# Altium footprint library DXPpcb.PCBLIB: 575 footprints (part 27 of 36)
Each footprint in its own frame and in the unit in brackets; x right, y up, seen from the top. Pads: shape width x height; smd on the part's side, far side on the other; paste and mask are expansions set on the pad; w line width, h text height; cw(c..) or ccw(c..) is an arc to the next point about the centre after c.
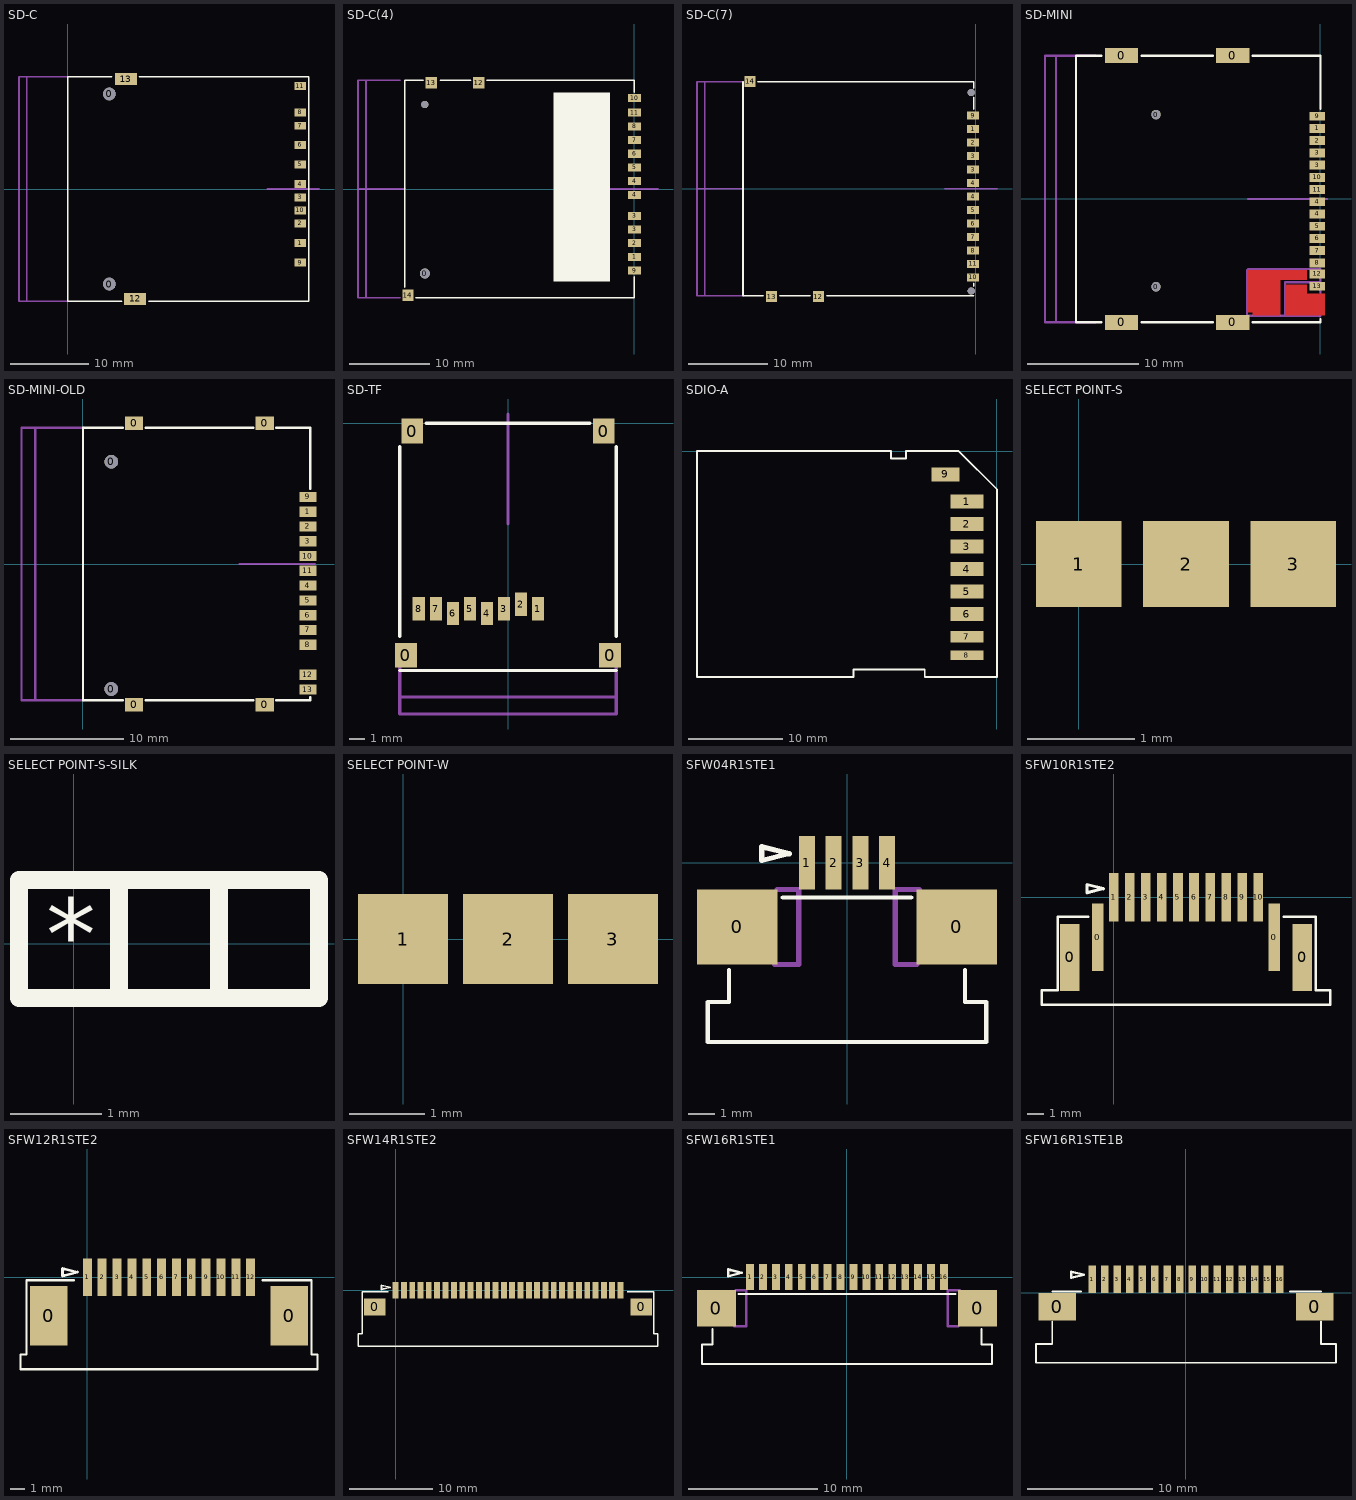
[diagram p26: the footprints below, top view; thin cyan lines are the x and y axes]

## SD-C [mm]
pads (15):
  round 1.6 hole 1.6 unplated: 0(5.3,-12.1) 0(5.3,12.1)
  rect 1.5x1 smd: 1(29.6,-6.88) 2(29.6,-4.38) 3(29.6,-1.08) 4(29.6,0.62) 5(29.6,3.12) 6(29.6,5.62) 7(29.6,8.05) 8(29.6,9.75) 9(29.6,-9.38) 10(29.6,-2.73) 11(29.6,13.1)
  rect 2.8x1.5 smd: 12(8.6,-14) 13(7.4,14)
TopOverlay:
  lines w0.2: 5.6,14.3 0,14.3 0,-14.3 6.9,-14.3 ; 9.1,14.3 30.7,14.3 30.7,-14.3 10.3,-14.3
Mechanical3:
  lines w0.2: 0,-14.3 -5.2,-14.3 ; 0,14.3 -5.2,14.3 ; 25.4,0 32,0 ; -5.2,-14.3 -5.2,14.3 ; -5.2,-14.3 -6.2,-14.3 -6.2,14.3 -5.2,14.3

## SD-C(4) [mm]
pads (18):
  round 1.25 hole 1.25 unplated: 0(-26,-10.5)
  round 0.9 hole 0.9 unplated: 0(-26,10.5)
  rect 1.6x1 smd: 1(0.05,-8.425) 2(0.05,-6.725) 3(0.05,-5.025) 3(0.05,-3.325) 4(0.05,-0.725) 4(0.05,0.975) 5(0.05,2.675) 6(0.05,4.375) 7(0.05,6.075) 8(0.05,7.775) 9(0.05,-10.125) 10(0.05,11.275) 11(0.05,9.475)
  rect 1.4x1.4 smd: 12(-19.3,13.2) 13(-25.2,13.2) 14(-28.1,-13.2)
TopOverlay:
  rectangle: -10,-11.5 -3,12
  lines w0.2: -28.5,-12.2 -28.5,13.5 -26.2,13.5 ; -27.1,-13.5 0,-13.5 0,-10.9 ; -24.1,13.5 -20.3,13.5 ; -18.3,13.5 0,13.5 0,12
Mechanical3:
  lines w0.2: -34.3,0 -28.5,0 ; -29.05,-13.5 -33.3,-13.5 ; -29.05,13.5 -33.3,13.5 ; -3.65,0 2.95,0 ; -33.3,-13.5 -33.3,13.5 ; -33.3,-13.5 -34.3,-13.5 -34.3,13.5 -33.3,13.5

## SD-C(7) [mm]
pads (18):
  round 0.9 hole 0.9 unplated: 0(-0.6,-12.875) 0(-0.6,12.125)
  rect 1.5x1 smd: 1(-0.35,7.525) 2(-0.35,5.825) 3(-0.35,2.425) 3(-0.35,4.125) 4(-0.35,-0.975) 4(-0.35,0.725) 5(-0.35,-2.675) 6(-0.35,-4.375) 7(-0.35,-6.075) 8(-0.35,-7.775) 9(-0.35,9.225) 10(-0.35,-11.175) 11(-0.35,-9.475)
  rect 1.4x1.4 smd: 12(-19.85,-13.575) 13(-25.75,-13.575) 14(-28.45,13.525)
TopOverlay:
  lines w0.2: -29.35,13.5 -29.35,-13.5 -26.8,-13.5 ; -27.5,13.5 -0.3,13.5 -0.3,12.7 ; -24.7,-13.5 -20.9,-13.5 ; -18.8,-13.5 -0.3,-13.5 ; -0.3,-12.3 -0.3,-11.9 ; -0.3,10 -0.3,11.5
Mechanical3:
  lines w0.2: -35.15,0 -29.35,0 ; -29.35,-13.5 -34.15,-13.5 ; -29.35,13.5 -34.15,13.5 ; -3.95,0 2.65,0 ; -34.15,-13.5 -34.15,13.5 ; -34.15,-13.5 -35.15,-13.5 -35.15,13.5 -34.15,13.5

## SD-MINI [mm]
pads (21):
  rect 3x1.35 smd: 0(-17.9,-11.1) 0(-17.9,12.9) 0(-7.9,-11.1) 0(-7.9,12.9)
  round 0.85 hole 0.85 unplated: 0(-14.8,-7.9) 0(-14.8,7.6)
  rect 1.4x0.8 smd: 1(-0.3,6.35) 2(-0.3,5.25) 3(-0.3,3.05) 3(-0.3,4.15) 4(-0.3,-1.35) 4(-0.3,-0.25) 5(-0.3,-2.45) 6(-0.3,-3.55) 7(-0.3,-4.65) 8(-0.3,-5.75) 9(-0.3,7.45) 10(-0.3,1.95) 11(-0.3,0.85) 12(-0.3,-6.75) 13(-0.3,-7.85)
TopLayer:
  rectangle: -6.1,-10.5 -3.6,-10.1
  rectangle: -6.5,-10.2 -3.6,-7.2
  rectangle: -6.5,-7.3 -1.2,-6.4
  rectangle: -1.3,-10.5 0.4,-8.5
  rectangle: -3.2,-10.5 -1.2,-7.7
TopOverlay:
  lines w0.2: -19.7,-11.1 -22,-11.1 -22,12.9 -19.7,12.9 ; -16.1,-11.1 -9.7,-11.1 ; -16.1,12.9 -9.7,12.9 ; -6.1,-11.1 0,-11.1 0,-10.8 ; -6.1,12.9 0,12.9 0,8.1
Mechanical3:
  lines w0.2: -23.8,-11.1 -23.8,12.9 ; -20.3,-11.1 -24.8,-11.1 -24.8,12.9 -20.3,12.9 ; -6.5,0 0.6,0 ; -3.2,-10.5 -6.6,-10.5 -6.6,-6.4 -6.5,-6.3 0,-6.3 0,-7.5 ; -3.2,-10.5 -3.2,-7.5 0,-7.5 ; -3.2,-10.5 0,-10.5 0,-7.5

## SD-MINI-OLD [mm]
pads (19):
  round 1.2 hole 1.2 unplated: 0(2.5,-11) 0(2.5,9)
  rect 1.6x1.2 smd: 0(4.5,-12.4) 0(4.5,12.4) 0(16,-12.4) 0(16,12.4)
  rect 1.5x0.9 smd: 1(19.8,4.6) 2(19.8,3.3) 3(19.8,2) 4(19.8,-1.9) 5(19.8,-3.2) 6(19.8,-4.5) 7(19.8,-5.8) 8(19.8,-7.1) 9(19.8,5.9) 10(19.8,0.7) 11(19.8,-0.6) 12(19.8,-9.75) 13(19.8,-11.05)
TopOverlay:
  lines w0.2: 3.5,-12 0,-12 0,12 3.5,12 ; 5.5,-12 15,-12 ; 5.5,12 15,12 ; 17,-12 20,-12 20,-11.7 ; 17,12 20,12 20,6.6
Mechanical3:
  lines w0.2: -4.2,-12 -4.2,12 ; 0,-12 -5.4,-12 -5.4,12 0,12 ; 13.8,0 20.4,0

## SD-TF [mm]
pads (12):
  rect 1.4x1.6 smd: 0(-6.6,-15) 0(-6.2,-0.5) 0(6.2,-0.5) 0(6.6,-15)
  rect 0.8x1.5 smd: 1(1.94,-12) 2(0.84,-11.7) 3(-0.26,-12) 4(-1.36,-12.3) 5(-2.46,-12) 6(-3.56,-12.3) 7(-4.66,-12) 8(-5.76,-12)
TopOverlay:
  lines w0.2: -7,-16 7,-16 ; -7,-13.8 -7,-1.5 ; -5.3,0 5.3,0 ; 7,-13.8 7,-1.5
Mechanical3:
  lines w0.2: -7,-17.7 7,-17.7 ; -7,-14.3 -7,-18.8 7,-18.8 7,-14.3 ; 0,-6.5 0,0.6

## SDIO-A [mm]
pads (9):
  rect 3.5x1.5 smd: 1(-3.2,-5.4) 2(-3.2,-7.8) 3(-3.2,-10.2) 4(-3.2,-12.6) 5(-3.2,-15) 6(-3.2,-17.4)
  rect 3.5x1.2 smd: 7(-3.2,-19.8)
  rect 3.5x1 smd: 8(-3.2,-21.8)
  rect 3x1.5 smd: 9(-5.5,-2.5)
TopOverlay:
  lines w0.2: -32,-24.1 -15.3,-24.1 -15.3,-23.3 -7.7,-23.3 -7.7,-24.1 0,-24.1 0,-4.1 -4.1,0 -9.7,0 -9.7,-0.8 -11.3,-0.8 -11.3,0 -32,0 -32,-24.1

## SELECT POINT-S [mm]
pads (3):
  rect 0.8x0.8 smd: 1(0,0) 2(1,0) 3(2,0)

## SELECT POINT-S-SILK [mm]
TopOverlay:
  lines w0.2: 0.5,-0.6 0.5,0.7 ; 1.6,-0.6 1.6,0.7 ; -0.6,-0.6 -0.6,0.7 2.7,0.7 2.7,-0.6 -0.6,-0.6
  text "*" at -0.3,-0.3 h0.8

## SELECT POINT-W [mm]
pads (3):
  rect 1.2x1.2 smd: 1(0,0) 2(1.4,0) 3(2.8,0)

## SFW04R1STE1 [mm]
pads (6):
  rect 3x2.8 smd: 0(-4.1,-2.4) 0(4.1,-2.4)
  rect 0.6x2 smd: 1(-1.5,0) 2(-0.5,0) 3(0.5,0) 4(1.5,0)
TopOverlay:
  lines w0.152: -4.4,-4 -4.4,-5.2 -5.2,-5.2 -5.2,-6.7 5.2,-6.7 5.2,-5.2 4.4,-5.2 4.4,-4 ; -2.4,-1.3 2.4,-1.3
  lines w0.2: -3.178,0.084 -3.178,0.592 -2.162,0.338 -3.178,0.084
Mechanical3:
  lines w0.2: -2.7,-3.8 -1.8,-3.8 -1.8,-1 -2.6,-1 ; 2.6,-3.8 1.8,-3.8 1.8,-1 2.7,-1

## SFW10R1STE2 [mm]
pads (14):
  rect 1.2x4.2 smd: 0(-2.75,-3.75) 0(11.75,-3.75)
  rect 0.7x4.2 smd: 0(-1,-2.5) 0(10,-2.5)
  rect 0.6x3 smd: 1(0,0) 2(1,0) 3(2,0) 4(3,0) 5(4,0) 6(5,0) 7(6,0) 8(7,0) 9(8,0) 10(9,0)
TopOverlay:
  lines w0.152: -1.6,-1.2 -3.5,-1.2 -3.5,-5.8 -4.5,-5.8 -4.5,-6.7 13.5,-6.7 13.5,-5.8 12.6,-5.8 12.6,-1.2 10.6,-1.2
  lines w0.2: -1.678,0.284 -1.678,0.792 -0.662,0.538 -1.678,0.284

## SFW12R1STE2 [mm]
pads (14):
  rect 2.5x4 smd: 0(-2.6,-2.6) 0(13.6,-2.6)
  rect 0.6x2.5 smd: 1(0,0) 2(1,0) 3(2,0) 4(3,0) 5(4,0) 6(5,0) 7(6,0) 8(7,0) 9(8,0) 10(9,0) 11(10,0) 12(11,0)
TopOverlay:
  lines w0.152: -0.9,-0.2 -4.1,-0.2 -4.1,-5.2 -4.5,-5.2 -4.5,-6.2 15.5,-6.2 15.5,-5.2 15.1,-5.2 15.1,-0.2 11.8,-0.2
  lines w0.2: -1.678,0.084 -1.678,0.592 -0.662,0.338 -1.678,0.084

## SFW14R1STE2 [mm]
pads (30):
  rect 2.6x2 smd: 0(-2.5,-2) 0(29.5,-2)
  rect 0.7x2 smd: 1(0,0) 2(1,0) 3(2,0) 4(3,0) 5(4,0) 6(5,0) 7(6,0) 8(7,0) 9(8,0) 10(9,0) 11(10,0) 12(11,0) 13(12,0) 14(13,0) 15(14,0) 16(15,0) 17(16,0) 18(17,0) 19(18,0) 20(19,0) 21(20,0) 22(21,0) 23(22,0) 24(23,0) 25(24,0) 26(25,0) 27(26,0) 28(27,0)
TopOverlay:
  lines w0.152: -0.9,-0.2 -4,-0.2 -4,-5.2 -4.5,-5.2 -4.5,-6.7 31.5,-6.7 31.5,-5.2 31,-5.2 31,-0.2 27.8,-0.2
  lines w0.2: -1.678,0.084 -1.678,0.592 -0.662,0.338 -1.678,0.084

## SFW16R1STE1 [mm]
pads (18):
  rect 3x2.8 smd: 0(-10.1,-2.4) 0(10.1,-2.4)
  rect 0.6x2 smd: 1(-7.5,0) 2(-6.5,0) 3(-5.5,0) 4(-4.5,0) 5(-3.5,0) 6(-2.5,0) 7(-1.5,0) 8(-0.5,0) 9(0.5,0) 10(1.5,0) 11(2.5,0) 12(3.5,0) 13(4.5,0) 14(5.5,0) 15(6.5,0) 16(7.5,0)
TopOverlay:
  lines w0.152: -10.4,-4 -10.4,-5.2 -11.2,-5.2 -11.2,-6.7 11.2,-6.7 11.2,-5.2 10.4,-5.2 10.4,-4 ; -8.4,-1.3 8.4,-1.3
  lines w0.2: -9.178,0.084 -9.178,0.592 -8.162,0.338 -9.178,0.084
Mechanical3:
  lines w0.2: -8.7,-3.8 -7.8,-3.8 -7.8,-1 -8.6,-1 ; 8.6,-3.8 7.8,-3.8 7.8,-1 8.7,-1

## SFW16R1STE1B [mm]
pads (18):
  rect 3x2.2 smd: 0(-10.3,-1.1) 0(10.3,-1.1)
  rect 0.6x2.2 smd: 1(-7.5,1.1) 2(-6.5,1.1) 3(-5.5,1.1) 4(-4.5,1.1) 5(-3.5,1.1) 6(-2.5,1.1) 7(-1.5,1.1) 8(-0.5,1.1) 9(0.5,1.1) 10(1.5,1.1) 11(2.5,1.1) 12(3.5,1.1) 13(4.5,1.1) 14(5.5,1.1) 15(6.5,1.1) 16(7.5,1.1)
TopOverlay:
  lines w0.152: -10.7,-2.3 -10.7,-4.1 -12,-4.1 -12,-5.6 12,-5.6 12,-4.1 10.8,-4.1 10.8,-2.3 ; -10.7,0.1 -8.4,0.1 ; 8.3,0.1 10.8,0.1
  lines w0.2: -9.178,1.184 -8.162,1.438 -9.178,1.692 -9.178,1.184